# Altium footprint library Footprints.PcbLib: 67 footprints (part 1 of 5)
Each footprint in its own frame and in the unit in brackets; x right, y up, seen from the top. Pads: shape width x height; smd on the part's side, far side on the other; paste and mask are expansions set on the pad; w line width, h text height; cw(c..) or ccw(c..) is an arc to the next point about the centre after c.
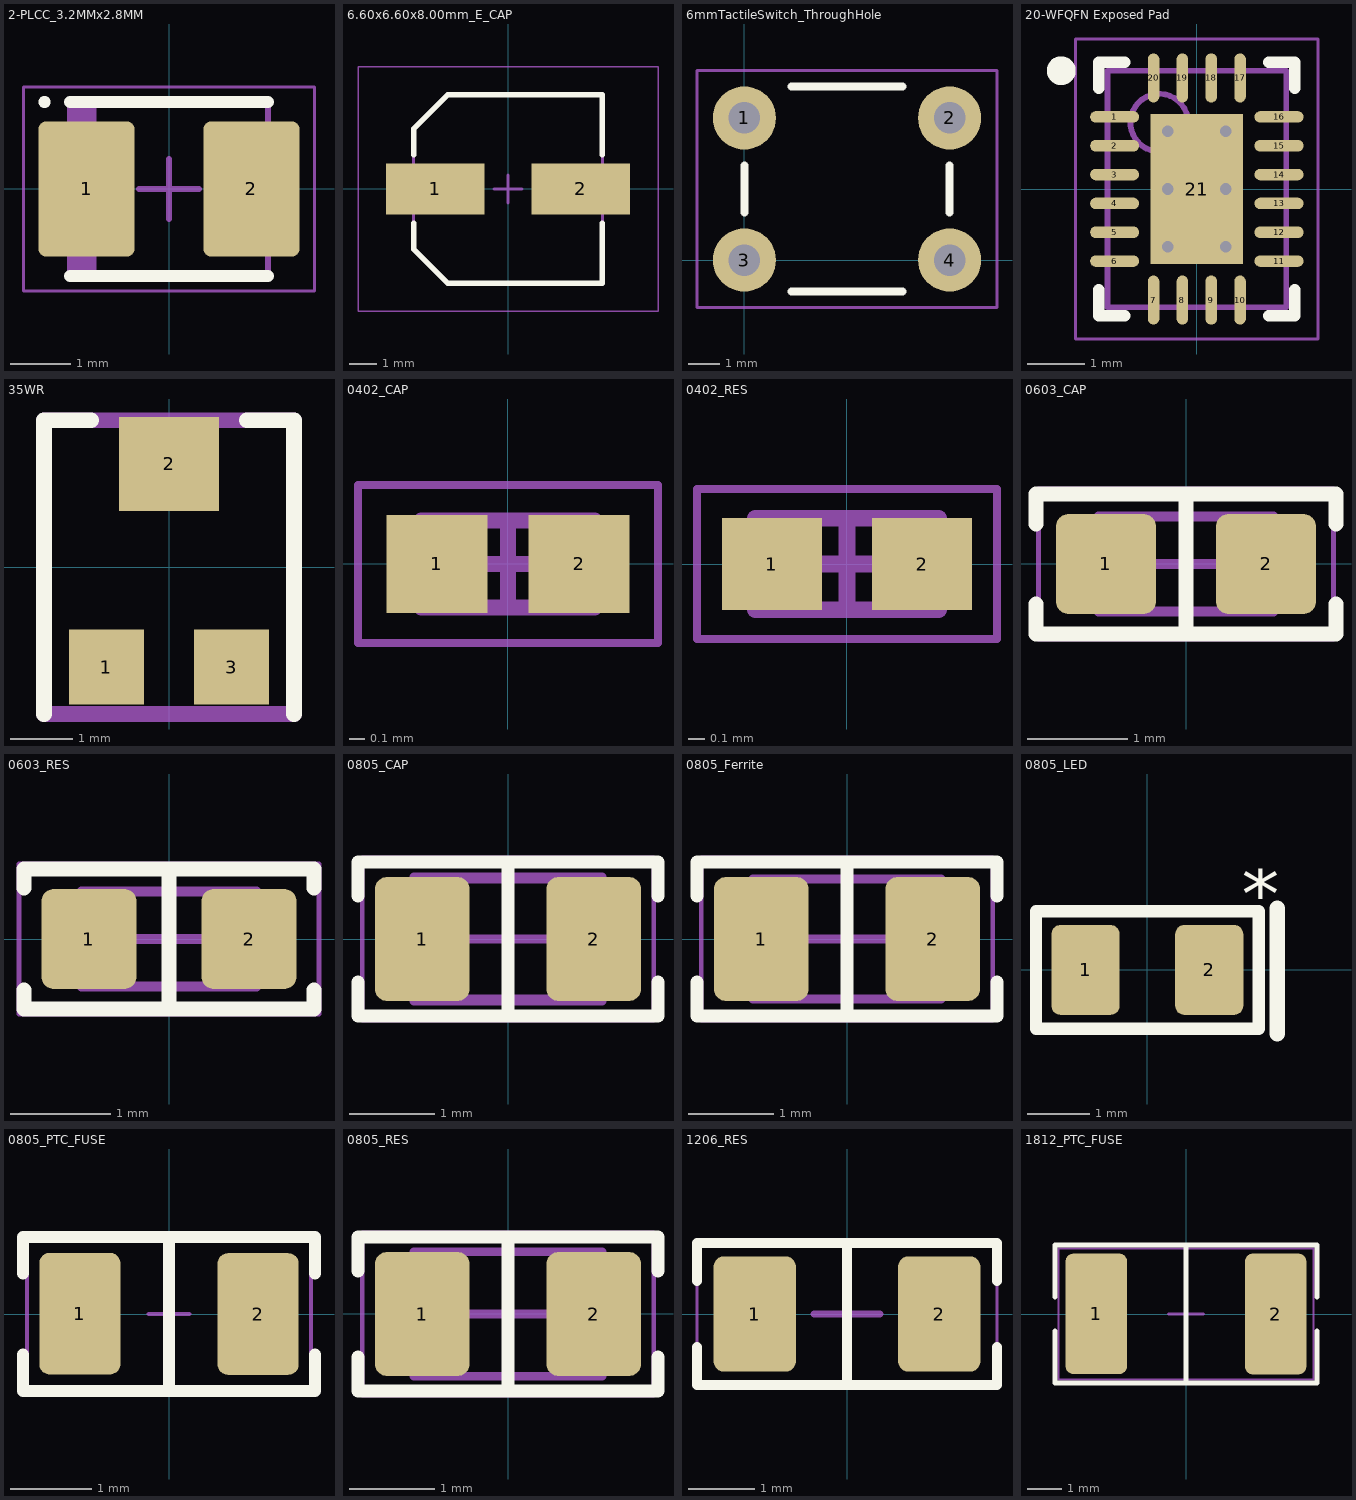
[diagram p0: the footprints below, top view; thin cyan lines are the x and y axes]

## 2-PLCC_3.2MMx2.8MM [mm] "Molded Diode, 2-Leads, Body 3.20x2.80mm, IPC Medium Density"
height 1.8
pads (2):
  rrect15% 1.6x2.25 smd: 1(-1.375,0) 2(1.375,0)
Top Overlay:
  circle w0.1: c-2.075,1.45 r0.05
  lines w0.2: -1.65,-1.45 1.65,-1.45 ; -1.65,1.45 1.65,1.45
Mechanical 13:
  rectangle: -1.65,-1.45 -1.206,1.45
  lines w0.1: -1.65,-1.45 1.65,-1.45 1.65,1.45 -1.65,1.45 -1.65,-1.45
Mechanical 15:
  lines w0.05: -2.425,-1.7 2.425,-1.7 2.425,1.7 -2.425,1.7 -2.425,-1.7
  lines w0.1: -0.5,0 0.5,0 ; 0,-0.5 0,0.5
3D body "2-PLCC_3.2MMx2.8MM.step": height 1.8, standoff 0, extent -1.87,-1.45 1.87,1.45

## 6.60x6.60x8.00mm_E_CAP [mm] "Aluminum Electrolytic Capacitor, Body 6.60x6.60x8.00mm, IPC Low Density"
height 8
pads (2):
  rect 3.55x1.85 smd: 1(-2.625,0) 2(2.625,0)
Top Overlay:
  lines w0.2: -3.4,-1.225 -3.4,-2.163 -2.163,-3.4 3.4,-3.4 3.4,-1.225 ; -3.4,1.225 -3.4,2.163 -2.163,3.4 3.4,3.4 3.4,1.225
Mechanical 13:
  lines w0.1: -3.4,-2.163 -2.163,-3.4 3.4,-3.4 3.4,3.4 -2.163,3.4 -3.4,2.163 -3.4,-2.163
Mechanical 15:
  lines w0.05: -5.4,-4.4 -5.4,4.4 5.4,4.4 5.4,-4.4 -5.4,-4.4
  lines w0.1: -0.5,0 0.5,0 ; 0,-0.5 0,0.5
3D body "CAPAE7066X80M.step": height 8, standoff 0, extent -3.2,-3.4 3.8,3.4

## 6mmTactileSwitch_ThroughHole [mm]
pads (4):
  round 2 hole 1: 1(0,4.5) 2(6.5,4.5) 3(0,0) 4(6.5,0)
Top Overlay:
  lines w0.254: 0,1.5 0,3 ; 1.5,-1 5,-1 ; 1.5,5.5 5,5.5 ; 6.5,1.5 6.5,3
Mechanical 15:
  lines w0.1: -1.5,-1.5 -1.5,6 8,6 8,-1.5 -1.5,-1.5
3D body "tactileswitch-short.STEP": height 4.95, standoff -3.38, extent -0.595,-0.753 7.096,5.254

## 20-WFQFN Exposed Pad [mm] "QFN, 20-Leads, Body 3.00x4.00mm, Pitch 0.50mm, Thermal Pad 1.60x2.60mm, IPC Medium Density"
height 0.8
pads (21):
  oval 0.85x0.2 smd: 1(-1.425,1.25) 2(-1.425,0.75) 3(-1.425,0.25) 4(-1.425,-0.25) 5(-1.425,-0.75) 6(-1.425,-1.25) 11(1.425,-1.25) 12(1.425,-0.75) 13(1.425,-0.25) 14(1.425,0.25) 15(1.425,0.75) 16(1.425,1.25)
  oval 0.2x0.85 smd: 7(-0.75,-1.925) 8(-0.25,-1.925) 9(0.25,-1.925) 10(0.75,-1.925) 17(0.75,1.925) 18(0.25,1.925) 19(-0.25,1.925) 20(-0.75,1.925)
  rect 1.6x2.6 smd paste-2539.97: 21(0,0)
via 0.5,0 diameter 0.36 hole 0.2
via -0.5,0 diameter 0.36 hole 0.2
via 0.5,-1 diameter 0.36 hole 0.2
via -0.5,-1 diameter 0.36 hole 0.2
via 0.5,1 diameter 0.36 hole 0.2
via -0.5,1 diameter 0.36 hole 0.2
Top Overlay:
  circle w0.25: c-2.35,2.05 r0.125
  lines w0.2: -1.7,-1.75 -1.7,-2.2 -1.25,-2.2 ; -1.7,1.75 -1.7,2.2 -1.25,2.2 ; 1.25,-2.2 1.7,-2.2 1.7,-1.75 ; 1.25,2.2 1.7,2.2 1.7,1.75
Top Paste:
  rectangle: -0.735,0.1 0.735,1.25
  rectangle: -0.735,-1.25 0.735,-0.1
Mechanical 13:
  circle w0.1: c-0.65,1.15 r0.5
  lines w0.1: -1.55,-2.05 -1.55,2.05 1.55,2.05 1.55,-2.05 -1.55,-2.05
Mechanical 15:
  lines w0.05: -2.1,-2.6 -2.1,2.6 2.1,2.6 2.1,-2.6 -2.1,-2.6
  lines w0.1: -0.5,0 0.5,0 ; 0,-0.5 0,0.5
3D body "20-WFQFN Exposed Pad.step": height 0.8, standoff 0, extent -1.6,-2.1 1.6,2.1

## 35WR [mm]
pads (3):
  rect 1.2x1.2 smd: 1(-1,-1.6) 3(1,-1.6)
  rect 1.6x1.5 smd: 2(0,1.65)
Top Overlay:
  lines w0.254: -2,-2.35 -2,2.35 -1.25,2.35 ; 1.25,2.35 2,2.35 2,-2.35
Mechanical 4:
  lines w0.254: -2,-2.35 2,-2.35 ; -2,-2.35 -2,2.35 ; -2,-2.35 2,-2.35 ; -2,-2.35 -2,2.35 ; -2,2.35 2,2.35 ; -2,2.35 2,2.35 ; 2,-2.35 2,2.35 ; 2,-2.35 2,2.35
3D body: height 1.2, standoff 0, extent -1.5,-1.9 1.5,1.9

## 0402_CAP [mm] "Chip Capacitor, 2-Leads, Body 1.00x0.50mm, IPC Medium Density"
height 0.4
pads (2):
  rect 0.64x0.62 smd: 1(-0.45,0) 2(0.45,0)
Mechanical 13:
  lines w0.1: -0.55,-0.275 -0.55,0.275 0.55,0.275 0.55,-0.275 -0.55,-0.275
Mechanical 15:
  lines w0.05: -0.95,-0.5 -0.95,0.5 0.95,0.5 0.95,-0.5 -0.95,-0.5
  lines w0.1: -0.275,0 0.275,0 ; 0,-0.275 0,0.275
3D body: height 0.4, standoff 0, extent -0.3,-0.275 0.3,0.275
3D body: height 0.4, standoff 0, extent -0.55,-0.275 -0.3,0.275
3D body: height 0.4, standoff 0, extent 0.3,-0.275 0.55,0.275

## 0402_RES [mm] "Chip Resistor, 2-Leads, Body 1.00x0.50mm, IPC Medium Density"
height 0.4
pads (2):
  rect 0.6x0.55 smd: 1(-0.45,0) 2(0.45,0)
Mechanical 13:
  lines w0.1: -0.55,-0.275 0.55,-0.275 0.55,0.275 -0.55,0.275 -0.55,-0.275
Mechanical 15:
  lines w0.05: -0.9,-0.45 0.9,-0.45 0.9,0.45 -0.9,0.45 -0.9,-0.45
  lines w0.1: -0.275,0 0.275,0 ; 0,-0.275 0,0.275
3D body: height 0.4, standoff 0, extent 0.3,-0.275 0.55,0.275
3D body: height 0.4, standoff 0, extent -0.55,-0.275 -0.3,0.275
3D body: height 0.4, standoff 0, extent -0.3,-0.275 0.3,0.275

## 0603_CAP [mm]
height 0.89
pads (2):
  rrect25% 1x1 smd: 1(-0.8,0) 2(0.8,0)
Top Overlay:
  lines w0.15: -1.5,-0.4 -1.5,-0.7 1.5,-0.7 1.5,-0.4 ; -1.5,0.4 -1.5,0.7 1.5,0.7 1.5,0.4 ; 0,-0.7 0,0.7
Mechanical 13:
  lines w0.1: -0.875,-0.475 0.875,-0.475 0.875,0.475 -0.875,0.475 -0.875,-0.475
Mechanical 15:
  lines w0.05: -1.475,-0.75 1.475,-0.75 1.475,0.75 -1.475,0.75 -1.475,-0.75
  lines w0.1: -0.475,0 0.475,0 ; 0,-0.475 0,0.475
3D body "0603 cap.STEP": height 0.82, standoff 0, extent -0.8,-0.412 0.8,0.412

## 0603_RES [mm] "Chip Resistor, 2-Leads, Body 1.60x0.80mm, IPC Medium Density"
height 0.45
pads (2):
  rrect25% 0.95x1 smd: 1(-0.8,0) 2(0.8,0)
Top Overlay:
  lines w0.15: -1.45,-0.508 -1.45,-0.7 1.45,-0.7 1.45,-0.508 ; -1.45,0.508 -1.45,0.7 1.45,0.7 1.45,0.508 ; 0,-0.7 0,0.7
Mechanical 13:
  lines w0.1: -0.875,-0.475 -0.875,0.475 0.875,0.475 0.875,-0.475 -0.875,-0.475
Mechanical 15:
  lines w0.05: -1.5,-0.75 -1.5,0.75 1.5,0.75 1.5,-0.75 -1.5,-0.75
  lines w0.1: -0.475,0 0.475,0 ; 0,-0.475 0,0.475
3D body "0603 resistor.STEP": height 0.45, standoff 0, extent -0.8,-0.4 0.8,0.4

## 0805_CAP [mm] "Chip Capacitor, Body 3.2x1.6mm, Height 1.9mm, IPC Low Density"
height 1.9
pads (2):
  rrect25% 1.1x1.45 smd: 1(-1,0) 2(1,0)
Top Overlay:
  lines w0.15: -1.75,-0.5 -1.75,-0.9 1.75,-0.9 1.75,-0.5 ; -1.75,0.5 -1.75,0.9 1.75,0.9 1.75,0.5 ; 0,-0.9 0,0.9
Mechanical 13:
  lines w0.1: -1.1,-0.725 1.1,-0.725 1.1,0.725 -1.1,0.725 -1.1,-0.725 ; -1.1,-0.7 1.1,-0.7 1.1,0.7 -1.1,0.7 -1.1,-0.7
Mechanical 15:
  lines w0.05: -1.7,-0.95 1.7,-0.95 1.7,0.95 -1.7,0.95 -1.7,-0.95
  lines w0.1: -0.5,0 0.5,0 ; 0,-0.5 0,0.5
3D body: height 1.1, standoff 0, extent -1.1,-0.65 -0.7,0.65
3D body: height 1.05, standoff 0, extent -0.7,-0.65 0.7,0.65
3D body: height 1.1, standoff 0, extent 0.7,-0.65 1.1,0.65

## 0805_Ferrite [mm]
pads (2):
  rrect25% 1.1x1.45 smd: 1(-1,0) 2(1,0)
Top Overlay:
  lines w0.15: -1.75,-0.5 -1.75,-0.9 1.75,-0.9 1.75,-0.5 ; -1.75,0.5 -1.75,0.9 1.75,0.9 1.75,0.5 ; 0,-0.9 0,0.9
Mechanical 13:
  lines w0.1: -1.1,-0.7 -1.1,0.7 1.1,0.7 1.1,-0.7 -1.1,-0.7
Mechanical 15:
  lines w0.05: -1.7,-0.95 1.7,-0.95 1.7,0.95 -1.7,0.95 -1.7,-0.95
  lines w0.1: -0.5,0 0.5,0 ; 0,-0.5 0,0.5
3D body "ferrite_bead_0805.STEP": height 0.9, standoff 0, extent -1,-0.6 1,0.6

## 0805_LED [mm]
pads (2):
  rrect25% 1.1x1.45 smd: 1(-1,0) 2(1,0)
Top Overlay:
  lines w0.2: -1.8,-0.95 -1.8,0.95 1.8,0.95 1.8,-0.95 -1.8,-0.95
  lines w0.25: 2.1,-1.032 2.1,1
  text "*" at 1.524,0.508 h1.52
3D body "CHIPLED-0805.step": height 0.9, standoff -0.01, extent -1.05,-0.675 1.05,0.675

## 0805_PTC_FUSE [mm]
pads (2):
  rrect25% 1x1.5 smd: 1(-1.1,0.004) 2(1.1,0)
Top Overlay:
  lines w0.15: -1.8,-0.5 -1.8,-0.95 1.8,-0.95 1.8,-0.5 ; -1.8,0.5 -1.8,0.95 1.8,0.95 1.8,0.5 ; 0,-0.95 0,0.95
Mechanical 15:
  lines w0.05: -0.25,0 0.25,0 ; 0,-0.25 0,0.25 ; -1.75,-0.9 -1.75,0.9 1.75,0.9 1.75,-0.9 -1.75,-0.9
3D body "Part2.STEP": height 0.66, standoff 0, extent -1.075,-0.675 1.075,0.675

## 0805_RES [mm] "Chip Resistor, 2-Leads, Body 2.00x1.25mm, IPC Medium Density"
height 0.5
pads (2):
  rrect25% 1.1x1.45 smd: 1(-1,0) 2(1,0)
Top Overlay:
  lines w0.15: -1.75,-0.5 -1.75,-0.9 1.75,-0.9 1.75,-0.5 ; -1.75,0.5 -1.75,0.9 1.75,0.9 1.75,0.5 ; 0,-0.9 0,0.9
Mechanical 13:
  lines w0.1: -1.1,-0.725 1.1,-0.725 ; -1.1,-0.7 -1.1,0.7 ; -1.1,0.725 1.1,0.725 ; 1.1,-0.7 1.1,0.7
Mechanical 15:
  lines w0.05: -1.7,-0.95 -1.7,0.95 1.7,0.95 1.7,-0.95 -1.7,-0.95
  lines w0.1: -0.5,0 0.5,0 ; 0,-0.5 0,0.5
3D body: height 0.5, standoff 0, extent -0.7,-0.725 0.7,0.725
3D body: height 0.5, standoff 0, extent 0.7,-0.725 1.1,0.725
3D body: height 0.5, standoff 0, extent -1.1,-0.725 -0.7,0.725

## 1206_RES [mm]
pads (2):
  rrect25% 1.25x1.75 smd: 1(-1.4,0) 2(1.4,0)
Top Overlay:
  lines w0.15: -2.275,-0.5 -2.275,-1.075 2.275,-1.075 2.275,-0.5 ; -2.275,0.5 -2.275,1.075 2.275,1.075 2.275,0.5 ; 0,-1.05 0,1.075
Mechanical 15:
  lines w0.05: -2.275,-1.075 -2.275,1.075 2.275,1.075 2.275,-1.075 -2.275,-1.075
  lines w0.1: -0.5,0 0.5,0 ; 0,-0.5 0,0.5
3D body "RES1206.stp": height 0.55, standoff 0, extent -1.55,-0.772 1.55,0.78

## 1812_PTC_FUSE [mm]
pads (2):
  rrect25% 1.78x3.5 smd: 1(-2.6,0.004) 2(2.6,0)
Top Overlay:
  lines w0.15: -3.8,-0.5 -3.8,-2 3.8,-2 3.8,-0.5 ; -3.8,0.5 -3.8,2 3.8,2 3.8,0.5 ; 0,-2 0,2
Mechanical 15:
  lines w0.05: -3.7,-1.9 3.7,-1.9 3.7,1.9 -3.7,1.9 -3.7,-1.9
  lines w0.1: -0.5,0 0.5,0 ; 0,-0.5 0,0.5
3D body "smd1812.stp": height 1.11, standoff 0, extent -2.35,-1.7 2.35,1.7